# EAGLE library part 8PIN-03536? (library RoboJackets-Connectors)
Description: Connector Header Through Hole, 7 position 0.079" (2.00mm) Link H: Digi-Key <https://www.digikey.com/products/en?keywords=0353630860> Link V: Digi-Key <https://www.digikey.com/products/en?keywords=0353620850>
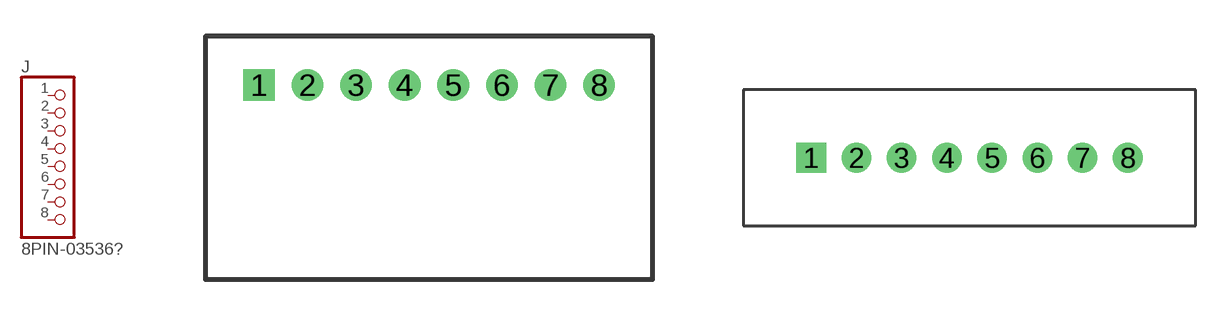
[diagram p2: symbol with the pads of 0353630860; footprints 0353630860, 0353620850]

Designator prefix J

## 8PIN-0353630860 (DKPN: WM18937-ND)  [0353630860]
1  1  pas
2  2  pas
3  3  pas
4  4  pas
5  5  pas
6  6  pas
7  7  pas
8  8  pas

## 8PIN-0353620850 (DKPN: WM18926-ND)  [0353620850]
Pads as for 0353630860

## Footprint 0353630860 (pad centres in mm)
drill 0.8 square: 1 -7,0
drill 0.8: 2 -5,0; 3 -3,0; 4 -1,0; 5 1,0; 6 3,0; 7 5,0; 8 7,0

## Footprint 0353620850 (pad centres in mm)
drill 0.8 square: 1 -6,0
drill 0.8: 2 -4,0; 3 -2,0; 4 0,0; 5 2,0; 6 4,0; 7 6,0; 8 8,0